# Altium schematic symbol library GRM0225C1E3R3CA03L.SchLib: 1 symbol
Pins are listed as number, name and electrical type; pins without a type are passive.

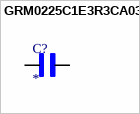
[diagram p0: symbol GRM0225C1E3R3CA03L]

## GRM0225C1E3R3CA03L
designator C?
SMD capacitor C0G(EIA) with capacitance 3.3pF Tol.0.25pF. Rated voltage 25Vdc 125C; MF: Murata; MP: GRM0225C1E3R3CA03L; SnapEDA_Link: https://www.snapeda.com/parts/GRM0225C1E3R3CA03L/Murata/view-part/?ref=snap; Package: 0402 Murata; Value: *; Check_prices: https://www.snapeda.com/parts/GRM0225C1E3R3CA03L/Murata/view-part/?ref=eda
footprint CAPC0402X22N
pins: 1, 2